# Altium footprint library QFN-10_2.PcbLib: 1 footprints
Each footprint in its own frame and in the unit in brackets; x right, y up, seen from the top. Pads: shape width x height; smd on the part's side, far side on the other; paste and mask are expansions set on the pad; w line width, h text height; cw(c..) or ccw(c..) is an arc to the next point about the centre after c.
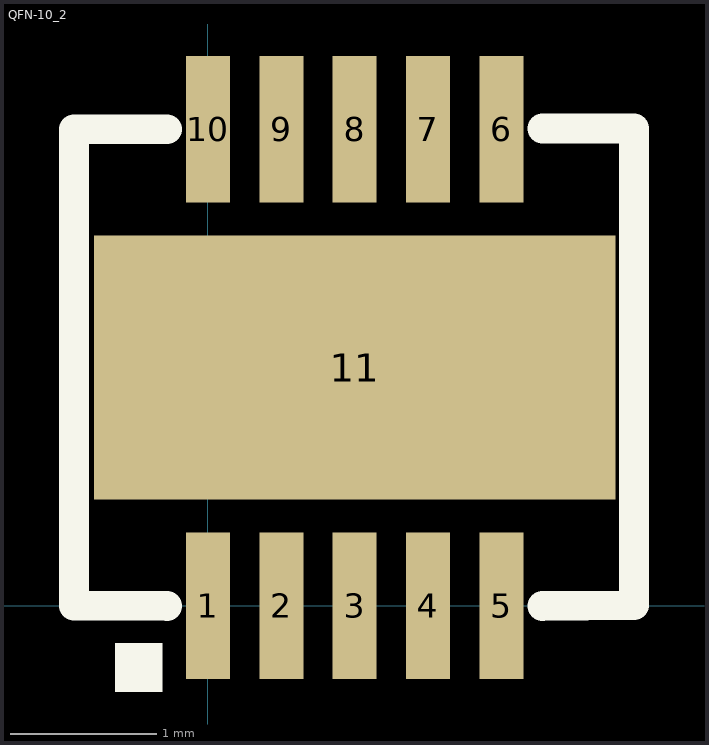
[diagram p0: the footprint, top view; thin cyan lines are the x and y axes]

## QFN-10_2 [mm]
height 1.016
pads (11):
  rect 0.3x1 smd: 1(0,0) 2(0.5,0) 3(1,0) 4(1.5,0) 5(2,0) 6(2,3.25) 7(1.5,3.25) 8(1,3.25) 9(0.5,3.25) 10(0,3.25)
  rect 3.556x1.8 smd: 11(1,1.625)
TopOverlay:
  rectangle: -0.635,-0.588 -0.311,-0.254
  lines w0.203: -0.28,0 -0.914,0.001 -0.914,3.249 -0.28,3.25 ; 2.28,0 2.905,0.005 2.905,3.255 2.281,3.255
3D body: height 1, standoff 0, extent -0.575,0.05 2.575,3.2